# Altium footprint library LM27313DC-DC.PcbLib: 1 footprints
Each footprint in its own frame and in the unit in brackets; x right, y up, seen from the top. Pads: shape width x height; smd on the part's side, far side on the other; paste and mask are expansions set on the pad; w line width, h text height; cw(c..) or ccw(c..) is an arc to the next point about the centre after c.
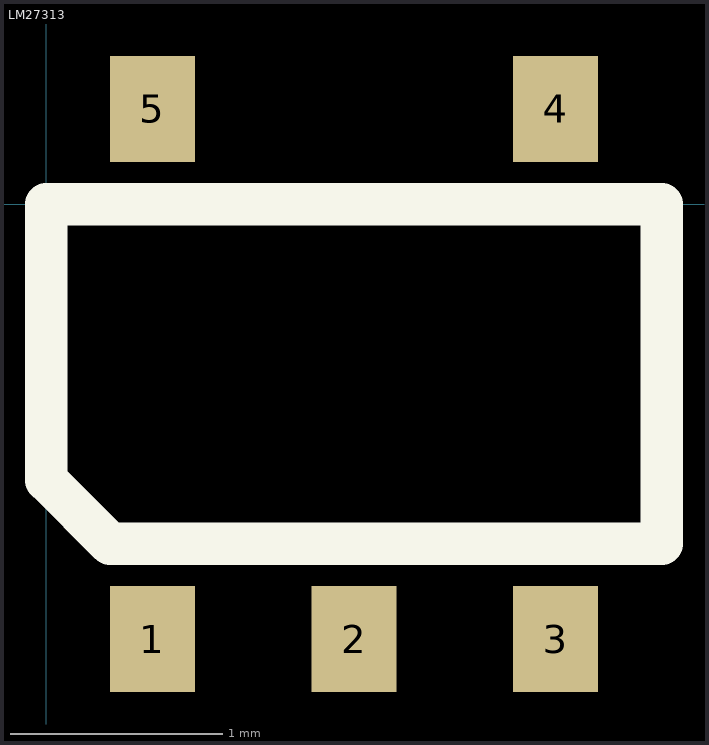
[diagram p0: the footprint, top view; thin cyan lines are the x and y axes]

## LM27313 [mm]
pads (5):
  rect 0.4x0.5 smd: 1(0.5,-2.05) 2(1.45,-2.05) 3(2.4,-2.05) 4(2.4,0.45) 5(0.5,0.45)
Top Overlay:
  lines w0.2: 0,-1.3 0,0 2.9,0 2.9,-1.6 0.3,-1.6 0,-1.3